# Altium schematic symbol library RTL8367RB-VB_gost.SCHLIB: 1 symbol
Pins are listed as number, name and electrical type; pins without a type are passive.

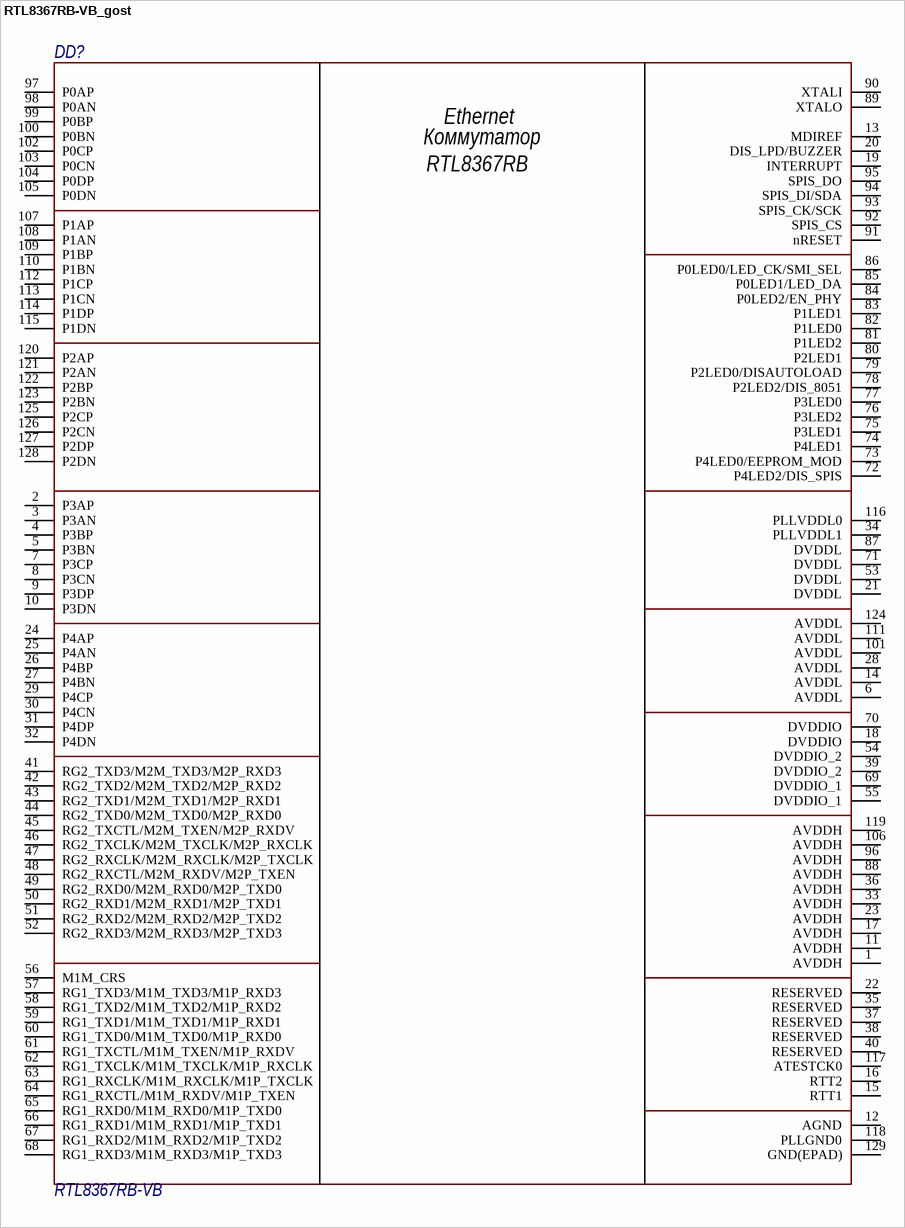
[diagram p0: symbol RTL8367RB-VB_gost]

## RTL8367RB-VB_gost
designator DD?, comment RTL8367RB-VB
pins: 1 AVDDH, 2 P3AP, 3 P3AN, 4 P3BP, 5 P3BN, 6 AVDDL, 7 P3CP, 8 P3CN, 9 P3DP, 10 P3DN, 11 AVDDH, 12 AGND, 13 MDIREF, 14 AVDDL, 15 RTT1, 16 RTT2, 17 AVDDH, 18 DVDDIO, 19 INTERRUPT, 20 DIS_LPD/BUZZER, 21 DVDDL, 22 RESERVED, 23 AVDDH, 24 P4AP, 25 P4AN, 26 P4BP, 27 P4BN, 28 AVDDL, 29 P4CP, 30 P4CN, 31 P4DP, 32 P4DN, 33 AVDDH, 34 PLLVDDL1, 35 RESERVED, 36 AVDDH, 37 RESERVED, 38 RESERVED, 39 DVDDIO_2, 40 RESERVED, 41 RG2_TXD3/M2M_TXD3/M2P_RXD3, 42 RG2_TXD2/M2M_TXD2/M2P_RXD2, 43 RG2_TXD1/M2M_TXD1/M2P_RXD1, 44 RG2_TXD0/M2M_TXD0/M2P_RXD0, 45 RG2_TXCTL/M2M_TXEN/M2P_RXDV, 46 RG2_TXCLK/M2M_TXCLK/M2P_RXCLK, 47 RG2_RXCLK/M2M_RXCLK/M2P_TXCLK, 48 RG2_RXCTL/M2M_RXDV/M2P_TXEN, 49 RG2_RXD0/M2M_RXD0/M2P_TXD0, 50 RG2_RXD1/M2M_RXD1/M2P_TXD1, 51 RG2_RXD2/M2M_RXD2/M2P_TXD2, 52 RG2_RXD3/M2M_RXD3/M2P_TXD3, 53 DVDDL, 54 DVDDIO_2, 55 DVDDIO_1, 56 M1M_CRS, 57 RG1_TXD3/M1M_TXD3/M1P_RXD3, 58 RG1_TXD2/M1M_TXD2/M1P_RXD2, 59 RG1_TXD1/M1M_TXD1/M1P_RXD1, 60 RG1_TXD0/M1M_TXD0/M1P_RXD0, 61 RG1_TXCTL/M1M_TXEN/M1P_RXDV, 62 RG1_TXCLK/M1M_TXCLK/M1P_RXCLK, 63 RG1_RXCLK/M1M_RXCLK/M1P_TXCLK, 64 RG1_RXCTL/M1M_RXDV/M1P_TXEN, 65 RG1_RXD0/M1M_RXD0/M1P_TXD0, 66 RG1_RXD1/M1M_RXD1/M1P_TXD1, 67 RG1_RXD2/M1M_RXD2/M1P_TXD2, 68 RG1_RXD3/M1M_RXD3/M1P_TXD3, 69 DVDDIO_1, 70 DVDDIO, 71 DVDDL, 72 P4LED2/DIS_SPIS, 73 P4LED0/EEPROM_MOD, 74 P4LED1, 75 P3LED1, 76 P3LED2, 77 P3LED0, 78 P2LED2/DIS_8051, 79 P2LED0/DISAUTOLOAD, 80 P2LED1, 81 P1LED2, 82 P1LED0, 83 P1LED1, 84 P0LED2/EN_PHY, 85 P0LED1/LED_DA, 86 P0LED0/LED_CK/SMI_SEL, 87 DVDDL, 88 AVDDH, 89 XTALO, 90 XTALI, 91 nRESET, 92 SPIS_CS, 93 SPIS_CK/SCK, 94 SPIS_DI/SDA, 95 SPIS_DO, 96 AVDDH, 97 P0AP, 98 P0AN, 99 P0BP, 100 P0BN, 101 AVDDL, 102 P0CP, 103 P0CN, 104 P0DP, 105 P0DN, 106 AVDDH, 107 P1AP, 108 P1AN, 109 P1BP, 110 P1BN, 111 AVDDL, 112 P1CP, 113 P1CN, 114 P1DP, 115 P1DN, 116 PLLVDDL0, 117 ATESTCK0, 118 PLLGND0, 119 AVDDH, 120 P2AP, 121 P2AN, 122 P2BP, 123 P2BN, 124 AVDDL, 125 P2CP, 126 P2CN, 127 P2DP, 128 P2DN, 129 GND(EPAD)
text: Ethernet; Коммутатор; RTL8367RB